# Altium footprint library OLED-PCB.PcbLib: 3 footprints
Each footprint in its own frame and in the unit in brackets; x right, y up, seen from the top. Pads: shape width x height; smd on the part's side, far side on the other; paste and mask are expansions set on the pad; w line width, h text height; cw(c..) or ccw(c..) is an arc to the next point about the centre after c.
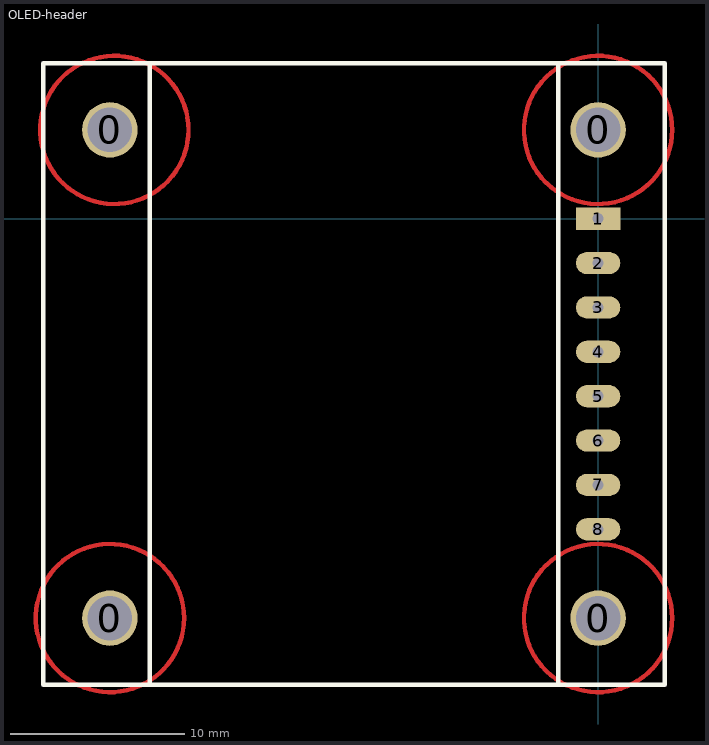
[diagram p0: the footprints below, top view; thin cyan lines are the x and y axes]

## OLED-header [mil]
height 200
pads (12):
  round 125 hole 100: 0(-1100,-900) 0(-1100,200) 0(0,-900) 0(0,200)
  rect 100x50 hole 25: 1(0,0)
  oval 100x50 hole 25: 2(0,-100) 3(0,-200) 4(0,-300) 5(0,-400) 6(0,-500) 7(0,-600) 8(0,-700)
Top Layer:
  circle w10: c0,200 r167
  circle w10: c-1090,200 r167
  circle w10: c-1100,-900 r167
  circle w10: c0,-900 r167
Top Overlay:
  lines w10: -1250,-1050 150,-1050 150,350 -1250,350 -1250,-1050 ; -1010,-1050 -90,-1050 -90,350 -1010,350 -1010,-1050
3D body: height 450, standoff 125, extent -1009.98,-1049.98 -90.02,349.98
3D body: height 250, standoff 200, extent -1255,-1055 155,355
3D body: height 200, standoff 0, extent -1266.98,-1066.98 -933.02,-733.02
3D body: height 200, standoff 0, extent -1256.98,33.02 -923.02,366.98
3D body: height 200, standoff 0, extent -166.98,-1066.98 166.98,-733.02
3D body: height 200, standoff 0, extent -166.98,33.02 166.98,366.98

## PCBComponent_1 [mil]

## PCBComponent_1 - duplicate [mil]